# Altium footprint library SIM 卡连接器.PcbLib: 3 footprints
Each footprint in its own frame and in the unit in brackets; x right, y up, seen from the top. Pads: shape width x height; smd on the part's side, far side on the other; paste and mask are expansions set on the pad; w line width, h text height; cw(c..) or ccw(c..) is an arc to the next point about the centre after c.
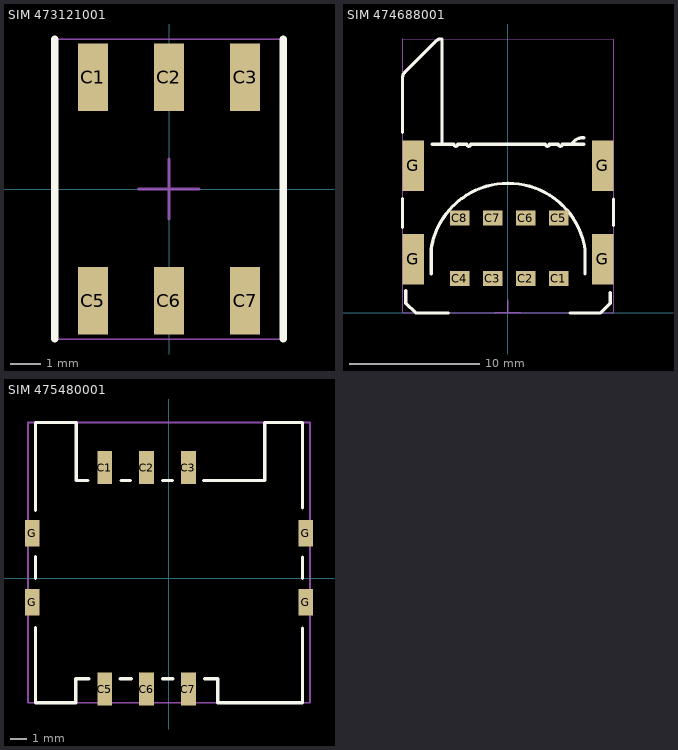
[diagram p0: the footprints below, top view; thin cyan lines are the x and y axes]

## SIM 473121001 [mm] "SIM卡座"
height 2
pads (6):
  rect 1x2.25 smd: C1(-2.54,3.725) C2(0,3.725) C3(2.54,3.725) C5(-2.54,-3.725) C6(0,-3.725) C7(2.54,-3.725)
Top Overlay:
  lines w0.25: -3.81,-5 -3.81,5 ; 3.81,-5 3.81,5
Mechanical 13:
  lines w0.05: -3.81,-5 3.81,-5 3.81,5 -3.81,5 -3.81,-5
Mechanical 15:
  lines w0.1: -1.016,0 1,0 ; 0,-1 0,1
3D body: height 2.27, standoff 0.03, extent -3.81,-5 3.81,5

## SIM 474688001 [mm] "SIM卡座"
height 2
pads (12):
  rect 1.5x1.15 smd: C1(3.9,2.65) C2(1.36,2.65) C3(-1.18,2.65) C4(-3.72,2.65) C5(3.9,7.31) C6(1.36,7.31) C7(-1.18,7.31) C8(-3.72,7.31)
  rect 1.65x3.9 smd: G(-7.3,4.13) G(-7.3,11.33) G(7.3,4.13) G(7.3,11.33)
Top Overlay:
  lines w0.25: -8.12,6.604 -8.12,8.788 ; -8.12,13.911 -8.12,18.153 cw(c-7.62,18.153) -7.974,18.506 -5.526,20.954 cw(c-5.173,20.6) -5.173,21.1 -5.09,21.1 -5.09,12.995 ; -7.87,1.706 -7.87,0.75 -7.12,0 -4.61,0 ; -5.92,3 -5.92,4.941 cw(c0.005,3.995) 5.93,4.941 5.93,3 ; -5.842,12.995 -4.17,12.995 ccw(c-4.02,12.995) -3.87,12.995 -3.17,12.995 ccw(c-3.02,12.995) -2.87,12.995 2.88,12.995 ccw(c3.03,12.995) 3.18,12.995 3.88,12.995 ccw(c4.03,12.995) 4.18,12.995 5.842,12.995 ; 4.79,0 7.13,0 7.88,0.75 7.88,1.575 ; 4.901,12.995 cw(c5.77,12.5) 5.77,13.5 5.842,13.5 ; 8.13,6.731 8.13,8.763
Mechanical 13:
  lines w0.05: -8.12,0 8.13,0 8.13,21.1 -8.12,21.1 -8.12,0
Mechanical 15:
  lines w0.1: -1.016,-0.025 -0.991,0 1,0 ; 0,0 0,1
3D body: height 2.1, standoff 0.05, extent -8.12,0 8.13,21.1

## SIM 475480001 [mm] "SIM卡座"
height 2
pads (10):
  rect 0.9x2 smd: C1(-3.9,6.715) C2(-1.36,6.715) C3(1.18,6.715) C5(-3.9,-6.715) C6(-1.36,-6.715) C7(1.18,-6.715)
  rect 0.9x1.6 smd: G(-8.3,2.74) G(-8.297,-1.46) G(8.3,-1.46) G(8.3,2.74)
Top Overlay:
  lines w0.2: -8.1,-2.999 -8.1,-7.545 -5.658,-7.545 -5.658,-6.096 -4.871,-6.096 ; -8.1,-0.01 -8.1,1.311 ; -8.1,4.137 -8.1,9.455 -5.633,9.455 -5.633,5.94 -4.925,5.94 ; -2.969,-6.096 -2.283,-6.096 ; -2.915,5.94 -2.356,5.94 ; -0.378,-6.096 0.231,-6.096 ; -0.375,5.94 0.209,5.94 ; 2.111,5.94 5.8,5.94 5.8,9.455 8.1,9.455 ; 2.165,-6.096 2.952,-6.096 2.952,-7.545 8.1,-7.545 8.1,-3.025 ; 8.1,-0.01 8.1,1.285 ; 8.1,4.264 8.1,9.421
Mechanical 13:
  lines w0.1: -8.55,-7.545 8.55,-7.545 8.55,9.455 -8.55,9.455 -8.55,-7.545
3D body: height 1.95, standoff 0.05, extent -8.55,-7.545 8.55,9.455